# Altium schematic symbol library USB-C-12PIN.SchLib: 6 symbols
Pins are listed as number, name and electrical type; pins without a type are passive.

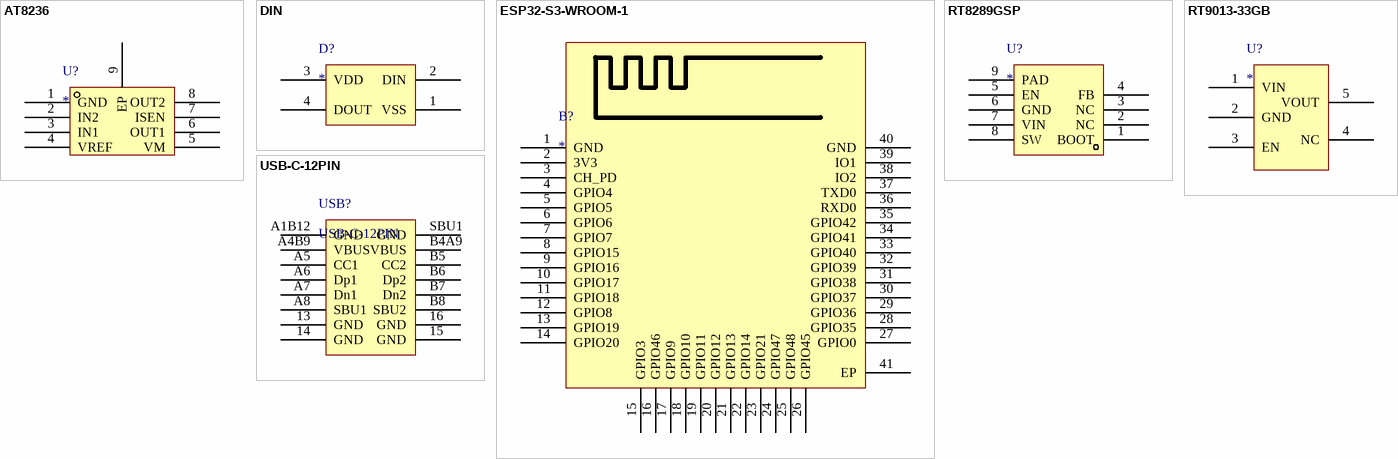
[diagram p0: symbols AT8236 to USB-C-12PIN]

## AT8236
designator U?
pins: 1 GND, 2 IN2, 3 IN1, 4 VREF, 5 VM, 6 OUT1, 7 ISEN, 8 OUT2, 9 EP

## DIN
designator D?
pins: 1 VSS, 2 DIN, 3 VDD, 4 DOUT

## ESP32-S3-WROOM-1
designator B?
pins: 1 GND, 2 3V3, 3 CH_PD, 4 GPIO4, 5 GPIO5, 6 GPIO6, 7 GPIO7, 8 GPIO15, 9 GPIO16, 10 GPIO17, 11 GPIO18, 12 GPIO8, 13 GPIO19, 14 GPIO20, 15 GPIO3, 16 GPIO46, 17 GPIO9, 18 GPIO10, 19 GPIO11, 20 GPIO12, 21 GPIO13, 22 GPIO14, 23 GPIO21, 24 GPIO47, 25 GPIO48, 26 GPIO45, 27 GPIO0, 28 GPIO35, 29 GPIO36, 30 GPIO37, 31 GPIO38, 32 GPIO39, 33 GPIO40, 34 GPIO41, 35 GPIO42, 36 RXD0, 37 TXD0, 38 IO2, 39 IO1, 40 GND, 41 EP

## RT8289GSP
designator U?
pins: 1 BOOT, 2 NC, 3 NC, 4 FB, 5 EN, 6 GND, 7 VIN, 8 SW, 9 PAD

## RT9013-33GB
designator U?
pins: 1 VIN, 2 GND, 3 EN, 4 NC, 5 VOUT

## USB-C-12PIN
designator USB?
pins: 13 GND, 14 GND, 15 GND, 16 GND, A1B12 GND, A4B9 VBUS, A5 CC1, A6 Dp1, A7 Dn1, A8 SBU1, B4A9 VBUS, B5 CC2, B6 Dp2, B7 Dn2, B8 SBU2, SBU1 GND